# Altium schematic symbol library IRLML6246TRPBF.Schlib: 1 symbol
Pins are listed as number, name and electrical type; pins without a type are passive.

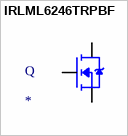
[diagram p0: symbol IRLML6246TRPBF]

## IRLML6246TRPBF
designator Q
MOSFET N TRENCH 20V 4.1A 1.1V @ 5UA 46 M? @ 4.1A,4.5V SOT-23(SOT-23-3) ROHS; MF: International Rectifier; MP: IRLML6246TRPBF; SnapEDA_Link: https://www.snapeda.com/parts/IRLML6246TRPBF/International%20Rectifier/view-part/612944/?ref=snap; Package: SOT-23 International Rectifier; Price: None; Value: *; LCSC Part #: C82053; ComponentLink1Description: LCSC - Infineon Technologies IRLML6246TRPBF; ComponentLink1URL: https://lcsc.com/product-detail/MOSFET_Infineon-Technologies_IRLML6246TRPBF_Infineon-Technologies-IRLML6246TRPBF_C82053.html/?href=jlc-SMT
footprint SOT23-3
pins: 1 G, 2 S, 3 D